# Altium schematic symbol library BoardLib.SchLib: 12 symbols
Pins are listed as number, name and electrical type; pins without a type are passive.

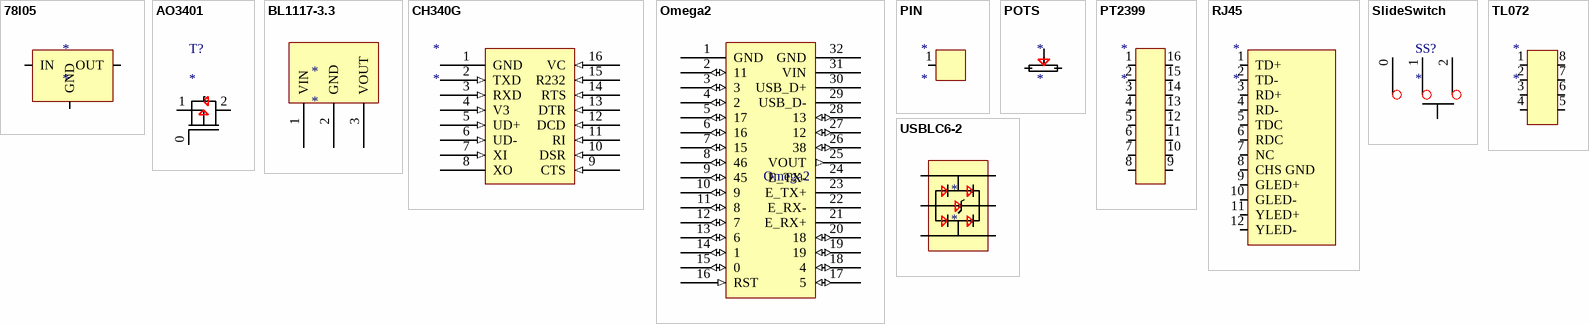
[diagram p0: symbols 78l05 to USBLC6-2]

## 78l05
designator *
footprint TO92; pin to pad 1>3 3>1
pins: 1 IN, 2 GND, 3 OUT

## AO3401
designator T?
footprint SOT95P245X110-3N (SOT23, 3-Leads, Body 2,90x2,45mm, Pitch 0,95mm, IPC Medium Density)
pins: 0 GATE, 1 SOURCE, 2 DRAIL

## BL1117-3.3
designator *
footprint SOT230P700X180-4N (SOT223, 4-Leads, Body 6,50x7,00mm (avg), Pitch 2,30mm, IPC Medium Density)
pins: 1 VIN, 2 GND, 3 VOUT

## CH340G
designator *
footprint SO16
pins: 1 GND, 2 TXD (in), 3 RXD (in), 4 V3 (in), 5 UD+ (in), 6 UD- (in), 7 XI (in), 8 XO, 9 CTS (in), 10 DSR (in), 11 RI (in), 12 DCD (in), 13 DTR (in), 14 RTS (in), 15 R232 (in), 16 VC (in)

## Omega2
designator 0mega2
footprint Omega2PCB
pins: 1 GND, 2 11 (io), 3 (io), 4 2 (io), 5 17 (io), 6 16 (io), 7 15 (io), 8 46 (io), 9 45 (io), 10 9 (io), 11 8 (io), 12 7 (io), 13 6 (io), 14 1 (io), 15 0 (io), 16 RST (in), 17 5 (io), 18 4 (io), 19 (io), 20 18 (io), 21 E_RX+, 22 E_RX-, 23 E_TX+, 24 E_TX-, 25 VOUT (out), 26 38 (io), 27 12 (io), 28 13 (io), 29 USB_D-, 30 USB_D+, 31 VIN (power), 32 GND

## PIN
designator *
footprint PIN
pins: 1

## POTS
designator *
footprint POTS
pins: 1 21, 2 22, 3 20

## PT2399
designator *
footprint DIP16
pins: 1, 2, 3, 4, 5, 6, 7, 8, 9, 10, 11, 12, 13, 14, 15, 16

## RJ45
designator *
footprint R911105A
pins: 1 TD+, 2 TD-, 3 RD+, 4 RD-, 5 TDC, 6 RDC, 7 NC, 8 CHS GND, 9 GLED+, 10 GLED-, 11 YLED+, 12 YLED-

## SlideSwitch
designator SS?
footprint SlideSwitch
pins: 0, 1, 2

## TL072
designator *
footprint DIP8
pins: 1, 2, 3, 4, 5, 6, 7, 8

## USBLC6-2
designator *
footprint SOT23-6L
pins: 1, 2 gnd, 3 2, 4 14, 5, 6 16